# Altium footprint library SparkFun-Connectors.PCBLIB: 376 footprints (part 24 of 24)
Each footprint in its own frame and in the unit in brackets; x right, y up, seen from the top. Pads: shape width x height; smd on the part's side, far side on the other; paste and mask are expansions set on the pad; w line width, h text height; cw(c..) or ccw(c..) is an arc to the next point about the centre after c.
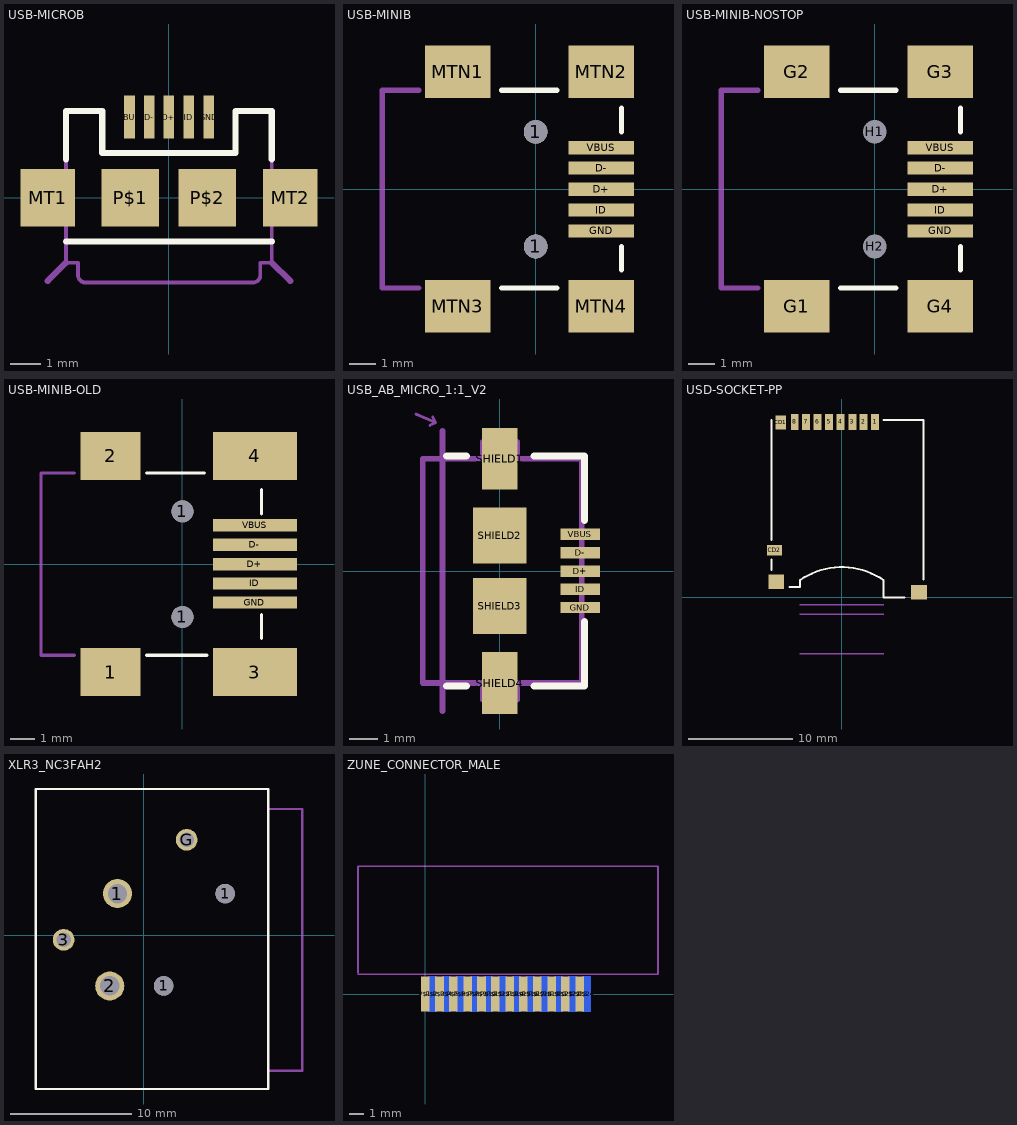
[diagram p23: the footprints below, top view; thin cyan lines are the x and y axes]

## USB-MICROB [mil]
pads (9):
  rect 14x56 smd: D+(0,105) D-(-25.59,105) GND(52,105) ID(26,105) VBUS(-51.18,105)
  rect 71x75 smd: MT1(-157.48,0) MT2(158,0)
  rect 75x75 smd: P$1(-50,0) P$2(50,0)
Top Overlay:
  lines w8: -133.86,-57.09 134,-57.09 ; -133.86,50 -133.86,113 -86.61,113 -86.61,58 87,58 87,113 134,113 134,50
Mechanical 2:
  text ">NAME" at -62.99,-13.78 h46.5
Mechanical 4:
  text ">VALUE" at -75,-125 h46.5
Mechanical 16:
  lines w5: -133.86,-57.09 -133.86,-84.65 -118.11,-84.65 -118.11,-100.39 ccw(c-108.76,-100.98) -110.24,-110.24 109,-110.24 ccw(c109.67,-100.8) 119,-102.36 119,-84.65 134,-84.65 134,-57.09 ; -133.86,-57.09 -133.86,113 -86.61,113 -86.61,58 87,58 87,113 134,113 134,-57.09 ; -133.86,-57.09 134,-57.09
  lines w8: -157.48,-108.27 -133.86,-84.65 ; 134,-84.65 158,-108.27

## USB-MINIB [mil]
pads (11):
  round 36 hole 36: 1(0,-86.61) 1(0,87)
  rect 99x20 smd: D+(99,0) D-(99,32) GND(99,-62.99) ID(99,-31.5) VBUS(99,63)
  rect 99x79 smd: MTN1(-118.11,178) MTN2(99,178) MTN3(-118.11,-177.17) MTN4(99,-177.17)
Top Overlay:
  lines w8: -51.18,-149.61 32,-149.61 ; -51.18,150 32,150 ; 130,-122.05 130,-86.61 ; 130,87 130,123
Mechanical 2:
  text ">NAME" at -150,50 h24.8
Mechanical 4:
  text ">VALUE" at -150,0 h24.8
Mechanical 16:
  lines w8: -177.17,-149.61 -232.28,-149.61 -232.28,150 -177.17,150

## USB-MINIB-NOSTOP [mil]
pads (11):
  rect 99x20 smd: D+(99,0) D-(99,32) GND(99,-62.99) ID(99,-31.5) VBUS(99,63)
  rect 99x79 smd: G1(-118.11,-177.17) G2(-118.11,178) G3(99,178) G4(99,-177.17)
  round 32 hole 36: H1(0,87)
  round 31 hole 36: H2(0,-86.61)
Top Overlay:
  lines w8: -51.18,-149.61 32,-149.61 ; -51.18,150 32,150 ; 130,-122.05 130,-86.61 ; 130,87 130,123
Top Solder:
  circle w17: c0,87 r14
  circle w17: c0,-86.61 r14
Mechanical 2:
  text ">NAME" at -150,50 h24.8
Mechanical 4:
  text ">VALUE" at -150,0 h24.8
Mechanical 16:
  lines w8: -177.17,-149.61 -232.28,-149.61 -232.28,150 -177.17,150

## USB-MINIB-OLD [mil]
pads (11):
  rect 99x79 smd: 1(-118.11,-177.17) 2(-118.11,178)
  round 36 hole 36: 1(0,-86.61) 1(0,87)
  rect 138x79 smd: 3(119,-177.17) 4(119,178)
  rect 138x20 smd: D+(119,0) D-(119,32) GND(119,-62.99) ID(119,-31.5) VBUS(119,64)
Top Overlay:
  lines w5: -59.06,-149.61 40,-149.61 ; -59.06,150 36,150 ; 130,-122.05 130,-82.68 ; 130,83 130,123
Mechanical 2:
  text ">NAME" at -150,0 h24.8
Mechanical 4:
  text ">VALUE" at -150,-50 h24.8
Mechanical 16:
  lines w5: -177.17,-149.61 -232.28,-149.61 -232.28,150 -177.17,150

## USB_AB_MICRO_1:1_V2 [mil]
pads (9):
  rect 56x16 smd: D+(113,0) D-(113,26) GND(113,-51.18) ID(113,-25.59) VBUS(113,52)
  rect 50x87 smd: SHIELD1(0,158) SHIELD4(0,-157.48)
  rect 75x79 smd: SHIELD2(0,50) SHIELD3(0,-49.21)
Top Overlay:
  lines w10: -74.8,-161.42 -47.24,-161.42 ; -74.8,162 -47.24,162 ; 48,-161.42 119,-161.42 119,-70.87 ; 48,162 119,162 119,71
Mechanical 2:
  text ">NAME" at -50,235 h24.8
Mechanical 4:
  text ">VALUE" at -50,215 h24.8
Mechanical 16:
  lines w4: -118.11,221 -90.55,209 ; -98.43,205 -90.55,209 ; -94.49,217 -90.55,209
  lines w8: -108.27,-157.48 -108.27,158 ; -106.3,-157.48 115,-157.48 115,158 24,158 ; -106.3,158 -23.62,158 ; -80.71,-196.85 -80.71,197 ; -23.62,-157.48 -23.62,-181.1 24,-181.1 24,-157.48 ; -23.62,158 24,158 ; -23.62,158 -23.62,182 24,182 24,158
  text "PCB Front" at -204.72,217 h18.6

## USD-SOCKET-PP [mil]
pads (12):
  rect 30x60 smd: 1(126,662) 2(83,662) 3(40,662) 4(-3.94,662) 5(-47.24,662) 6(-90.55,662) 7(-133.86,662) 8(-177.17,662)
  rect 40x52 smd: CD1(-230.31,660)
  rect 56x40 smd: CD2(-252.95,178)
  rect 60x54 smd: GND1(-247.05,59) GND2(291,19)
Top Overlay:
  lines w8: -264.76,103 -264.76,142 ; -264.76,217 -264.76,670 ; -196.85,40 -157.48,40 -157.48,65 cw(c0.26,-162.74) 158,65 158,0 237,0 ; 158,670 309,670 309,67
Mechanical 2:
  text ">Name" at -200,300 h24.8
Mechanical 4:
  text ">Value" at -200,250 h24.8
Mechanical 16:
  lines w5: -157.48,-212.6 158,-212.6 ; -157.48,-62.99 158,-62.99 ; -157.48,-27.56 158,-27.56

## XLR3_NC3FAH2 [mil]
pads (6):
  round 94.5 hole 63: 1(-85,135) 2(-110,-165)
  round 63 hole 63: 1(65,-165) 1(265,135)
  round 70.5 hole 47: 3(-260,-15) G(140,310)
Top Overlay:
  lines w8: -350,-500 405,-500 405,475 -350,475 -350,-500
Mechanical 16:
  lines w8: 410,-440 515,-440 515,-40 515,410 410,410

## ZUNE_CONNECTOR_MALE [mil]
pads (24):
  rect 24x99 smd: P$1(0,0) P$3(40,0) P$5(79,0) P$7(119,0) P$9(158,0) P$11(197,0) P$13(237,0) P$15(276,0) P$17(315,0) P$19(355,0) P$21(394,0) P$23(434,0)
  rect 24x99 smd far side: P$2(20,0) P$4(60,0) P$6(99,0) P$8(138,0) P$10(178,0) P$12(217,0) P$14(256,0) P$16(296,0) P$18(335,0) P$20(375,0) P$22(414,0) P$24(453,0)
Mechanical 16:
  lines w5: -188.98,56 654,56 654,359 -188.98,359 -188.98,60
  text "Connector should be used only with 1.2mm PCB thickness." at -35.43,71 h18.6